# Altium footprint library GDZ5V1LP3-7.PcbLib: 3 footprints
Each footprint in its own frame and in the unit in brackets; x right, y up, seen from the top. Pads: shape width x height; smd on the part's side, far side on the other; paste and mask are expansions set on the pad; w line width, h text height; cw(c..) or ccw(c..) is an arc to the next point about the centre after c.
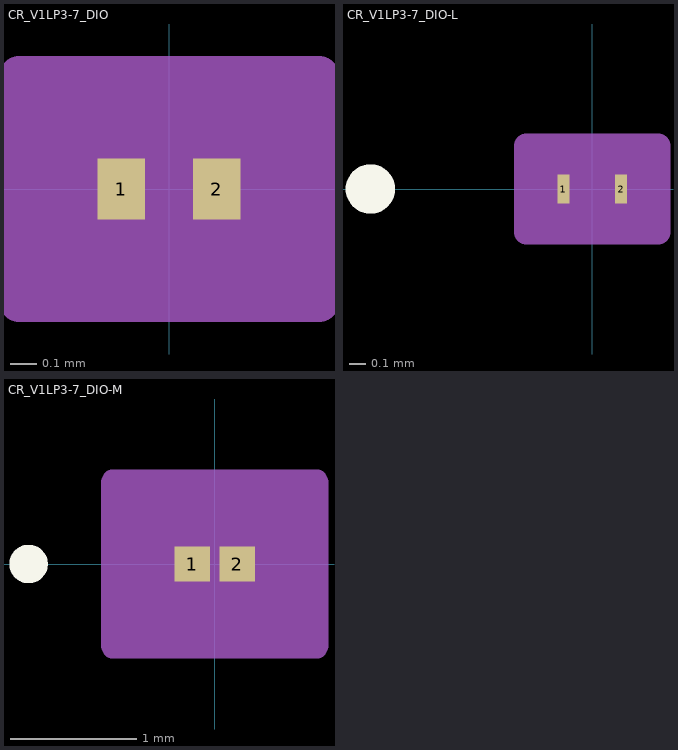
[diagram p0: the footprints below, top view; thin cyan lines are the x and y axes]

## CR_V1LP3-7_DIO [mil]
pads (2):
  rect 7x9 smd paste+0 mask+0: 1(-7,0) 2(7,0)
Mechanical 13:
  circle w0: c0,0 r0
  lines w1: -12,-6.5 12,-6.5 12,6.5 -12,6.5 -12,-6.5
Mechanical 15:
  region: -22,-14.5 -22,14.5 -22,16.5 22,16.5 22,14.5 22,-14.5 22,-16.5 -22,-16.5
  lines w6: -22,-14.5 -22,14.5 ; -22,-14.5 -22,-14.5 ; -22,-14.5 -22,-16.5 22,-16.5 22,-14.5 ; -22,14.5 -22,14.5 ; -22,14.5 -22,16.5 22,16.5 22,14.5 ; 22,-14.5 22,14.5 ; 22,-14.5 22,-14.5 ; 22,14.5 22,14.5
3D body "CR_V1LP3-7_DIO.step": height 12.09, standoff 0, extent -12.01,-6.5 12.01,6.5

## CR_V1LP3-7_DIO-L [mil]
pads (2):
  rect 3x7 smd paste+0 mask+0: 1(-7,0) 2(7,0)
Top Overlay:
  circle w6: c-54,0 r3
Mechanical 13:
  circle w0: c0,0 r3
  lines w1: -12,-6.5 12,-6.5 12,6.5 -12,6.5 -12,-6.5
Mechanical 15:
  region: -16,-7.5 -16,7.5 -16,10.5 16,10.5 16,7.5 16,-7.5 16,-10.5 -16,-10.5
  lines w6: -16,-7.5 -16,7.5 ; -16,-7.5 -16,-7.5 ; -16,-7.5 -16,-10.5 16,-10.5 16,-7.5 ; -16,7.5 -16,7.5 ; -16,7.5 -16,10.5 16,10.5 16,7.5 ; 16,-7.5 16,7.5 ; 16,-7.5 16,-7.5 ; 16,7.5 16,7.5
3D body "CR_V1LP3-7_DIO.step": height 12.09, standoff 0, extent -12.01,-6.5 12.01,6.5

## CR_V1LP3-7_DIO-M [mil]
pads (2):
  rect 11x11 smd paste+0 mask+0: 1(-7,0) 2(7,0)
Top Overlay:
  circle w6: c-58,0 r3
Mechanical 13:
  circle w0: c0,0 r3
  lines w1: -12,-6.5 12,-6.5 12,6.5 -12,6.5 -12,-6.5
Mechanical 15:
  region: -32,-25.5 -32.5,-25.5 -32.5,25.5 -32,25.5 -32,26.5 32,26.5 32,25.5 32.5,25.5 32.5,-25.5 32,-25.5 32,-26.5 -32,-26.5
  lines w6: -32.5,-25.5 -32.5,25.5 -32,25.5 -32,26.5 32,26.5 32,25.5 32.5,25.5 32.5,-25.5 32,-25.5 32,-26.5 -32,-26.5 -32,-25.5 -32.5,-25.5
3D body "CR_V1LP3-7_DIO.step": height 12.09, standoff 0, extent -12.01,-6.5 12.01,6.5